# Altium footprint library SOT-223.PcbLib: 1 footprints
Each footprint in its own frame and in the unit in brackets; x right, y up, seen from the top. Pads: shape width x height; smd on the part's side, far side on the other; paste and mask are expansions set on the pad; w line width, h text height; cw(c..) or ccw(c..) is an arc to the next point about the centre after c.
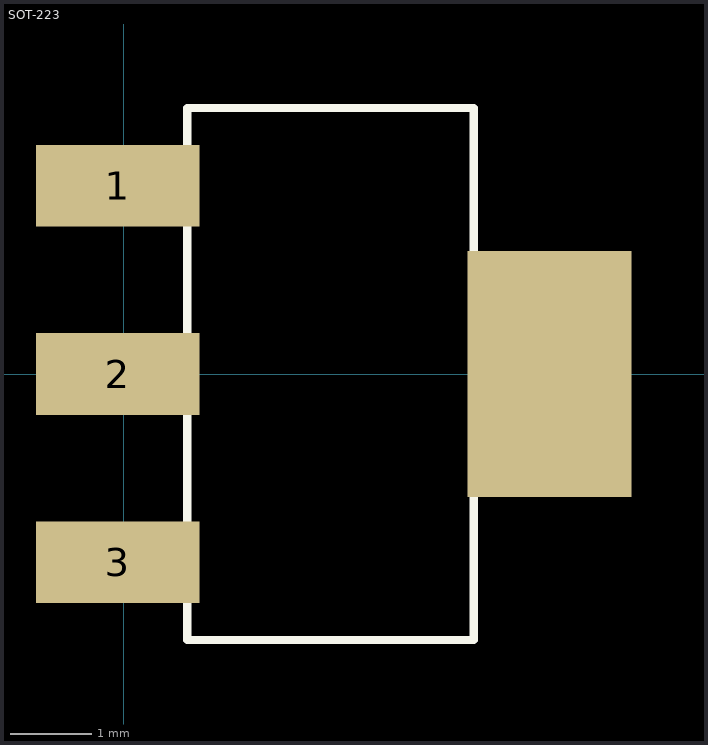
[diagram p0: the footprint, top view; thin cyan lines are the x and y axes]

## SOT-223 [mm]
pads (4):
  rect 2x1 smd: 1(-0.075,2.3) 2(-0.075,0) 3(-0.075,-2.3)
  rect 2x3 smd: ""(5.2,0)
Top Overlay:
  lines w0.1: 0.775,-3.25 0.775,3.25 4.275,3.25 4.275,-3.25 0.775,-3.25